# Altium footprint library PCB_Passive.PcbLib: 22 footprints (part 2 of 2)
Each footprint in its own frame and in the unit in brackets; x right, y up, seen from the top. Pads: shape width x height; smd on the part's side, far side on the other; paste and mask are expansions set on the pad; w line width, h text height; cw(c..) or ccw(c..) is an arc to the next point about the centre after c.
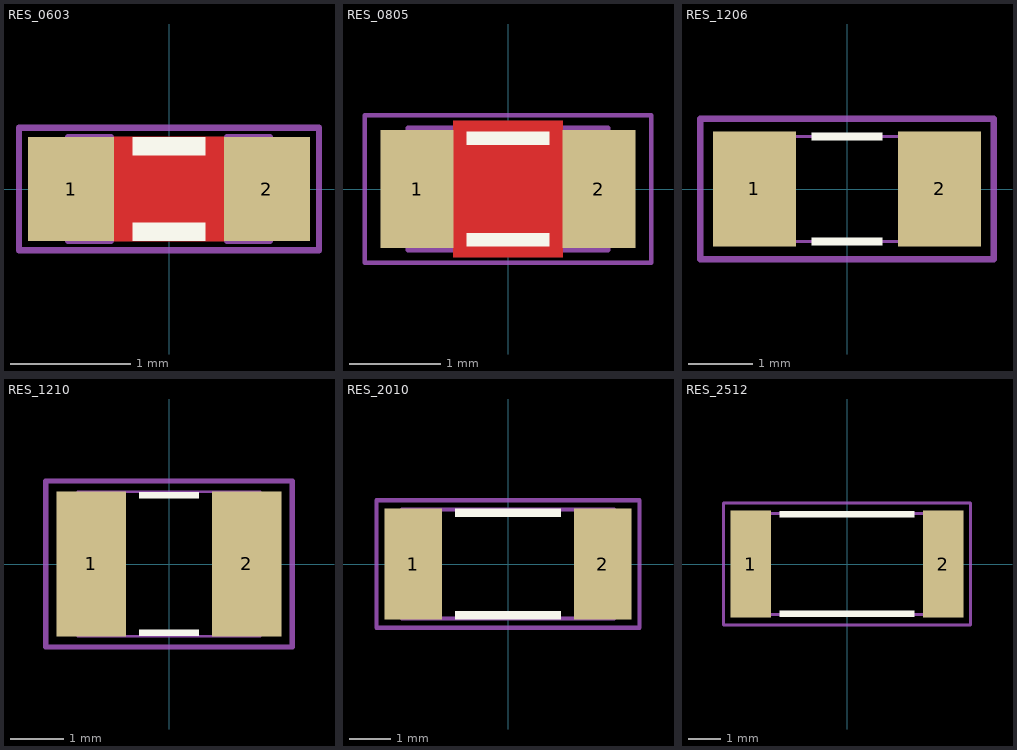
[diagram p1: the footprints below, top view; thin cyan lines are the x and y axes]

## RES_0603 [mil]
height 31.5
pads (2):
  rect 28x34 smd: 1(-32,0) 2(32,0)
Top Layer:
  pour cut-out: -18,17 18,17 18,-17 -18,-17
Top Overlay:
  rectangle: -12,-17 12,-11
  rectangle: -12,11 12,17
Mechanical 13:
  lines w1.97: -33,-17 -33,17 -19,17 -19,-17 -33,-17 ; 19.01,-17 33.01,-17 33.01,17 19.01,17 19.01,-17
  lines w2: -19,-15 19,-15 ; -18.99,15 19.01,15
Mechanical 14:
  lines w2: -49,-20 -49,20 49,20 49,-20 -49,-20
3D body: height 19.68, standoff 0, extent -31.49,-15.74 31.51,15.75

## RES_0805 [mm]
height 0.7
pads (2):
  rect 0.8x1.3 smd: 1(-1,0) 2(1,0)
Top Layer:
  pour cut-out: -0.6,0.75 0.6,0.75 0.6,-0.75 -0.6,-0.75
Top Overlay:
  rectangle: -0.457,0.483 0.457,0.635
  rectangle: -0.457,-0.635 0.457,-0.483
Mechanical 13:
  lines w0.05: 0.6,-0.674 -0.6,-0.674 ; -0.6,-0.675 -0.6,0.675 -1.1,0.675 -1.1,-0.675 -0.6,-0.675 ; -0.6,-0.674 0.6,-0.674 ; 0.6,-0.675 0.6,0.675 ; 0.6,-0.675 1.1,-0.675 1.1,0.675 0.6,0.675 ; 0.6,0.674 -0.6,0.674 0.6,0.674
Mechanical 14:
  lines w0.051: -1.575,-0.813 1.575,-0.813 1.575,0.813 -1.575,0.813 -1.575,-0.813
3D body: height 0.6, standoff 0, extent -1,-0.6 1,0.6

## RES_1206 [mm]
height 0.7
pads (2):
  rect 1.3x1.8 smd: 1(-1.45,0) 2(1.45,0)
Top Overlay:
  rectangle: -0.559,-0.889 0.559,-0.762
  rectangle: -0.559,0.762 0.559,0.889
Mechanical 13:
  lines w0.05: 1.025,-0.824 -1.025,-0.824 1.025,-0.824 ; -1.625,-0.825 -1.625,0.825 -1.025,0.825 -1.025,-0.825 -1.625,-0.825 ; -1.025,0.824 1.025,0.824 -1.025,0.824 ; 1.025,-0.825 1.625,-0.825 1.625,0.825 1.025,0.825 1.025,-0.825
Mechanical 14:
  lines w0.1: -2.3,-1.1 2.3,-1.1 2.3,1.1 -2.3,1.1 -2.3,-1.1
3D body: height 0.65, standoff 0, extent -1.6,-0.8 1.6,0.8

## RES_1210 [mm]
height 0.7
pads (2):
  rect 1.3x2.7 smd: 1(-1.45,0) 2(1.45,0)
Top Overlay:
  rectangle: -0.559,1.219 0.559,1.346
  rectangle: -0.559,-1.346 0.559,-1.219
Mechanical 13:
  lines w0.05: -1.7,-1.35 -1.7,1.35 -1.1,1.35 -1.1,-1.35 -1.7,-1.35 ; -1.1,-1.349 1.1,-1.349 -1.1,-1.349 ; -1.1,1.349 1.1,1.349 -1.1,1.349 ; 1.1,-1.35 1.7,-1.35 1.7,1.35 1.1,1.35 1.1,-1.35
Mechanical 14:
  lines w0.1: -2.3,-1.55 2.3,-1.55 2.3,1.55 -2.3,1.55 -2.3,-1.55
3D body: height 0.65, standoff 0, extent -1.6,-1.25 1.6,1.25

## RES_2010 [mm]
height 0.7
pads (2):
  rect 1.4x2.7 smd: 1(-2.3,0) 2(2.3,0)
Top Overlay:
  rectangle: -1.295,1.143 1.295,1.346
  rectangle: -1.295,-1.346 1.295,-1.143
Mechanical 13:
  lines w0.1: -2.575,-1.325 2.575,-1.325 2.575,1.325 -2.575,1.325 -2.575,-1.325
Mechanical 14:
  lines w0.1: -3.2,-1.55 3.2,-1.55 3.2,1.55 -3.2,1.55 -3.2,-1.55
3D body: height 0.7, standoff 0, extent -2.5,-1.25 2.5,1.25

## RES_2512 [mm]
height 0.7
pads (2):
  rect 1.25x3.35 smd: 1(-3,0) 2(3,0)
Top Overlay:
  rectangle: -2.108,-1.651 2.108,-1.448
  rectangle: -2.108,1.448 2.108,1.651
Mechanical 13:
  lines w0.1: -3.15,-1.575 3.15,-1.575 3.15,1.575 -3.15,1.575 -3.15,-1.575
Mechanical 14:
  lines w0.1: -3.85,-1.9 3.85,-1.9 3.85,1.9 -3.85,1.9 -3.85,-1.9
3D body: height 0.84, standoff 0, extent -3.3,-1.6 3.3,1.6